# EAGLE library part HEF4060 (library _MyComponents)
14-Stagge Binary Counter Voltage range: 3-15V
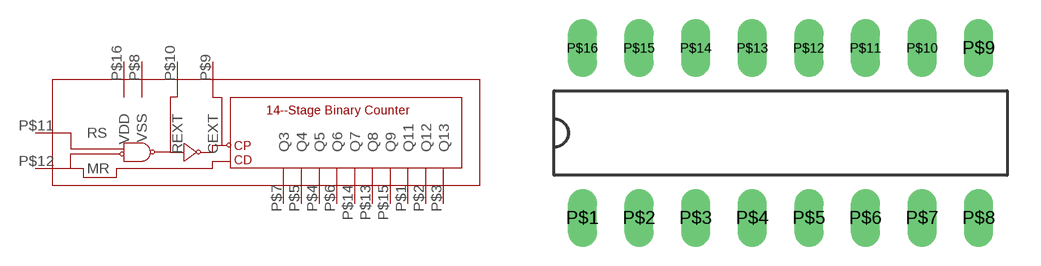
[diagram p11: symbol with the pads of DIL16; footprint DIL16]

Designator prefix U

## HEF4060  [DIL16]
P$1  Q11  out
P$2  Q12  out
P$3  Q13  out
P$4  Q5  out
P$5  Q4  out
P$6  Q6  out
P$7  Q3  out
P$8  VSS  out
P$9  CEXT  in
P$10  REXT  in
P$11  RS  in
P$12  MR  in
P$13  Q8  out
P$14  Q7  out
P$15  Q9  out
P$16  VDD  out

## Footprint DIL16 (pad centres in mm)
drill 0.8 pad 1.27 long: P$1 -8.89,-3.81; P$2 -6.35,-3.81; P$3 -3.81,-3.81; P$4 -1.27,-3.81; P$5 1.27,-3.81; P$6 3.81,-3.81; P$7 6.35,-3.81; P$8 8.89,-3.81; P$9 8.89,3.81; P$10 6.35,3.81; P$11 3.81,3.81; P$12 1.27,3.81; P$13 -1.27,3.81; P$14 -3.81,3.81; P$15 -6.35,3.81; P$16 -8.89,3.81